# EAGLE library part 1X54 (library h1,27mm)
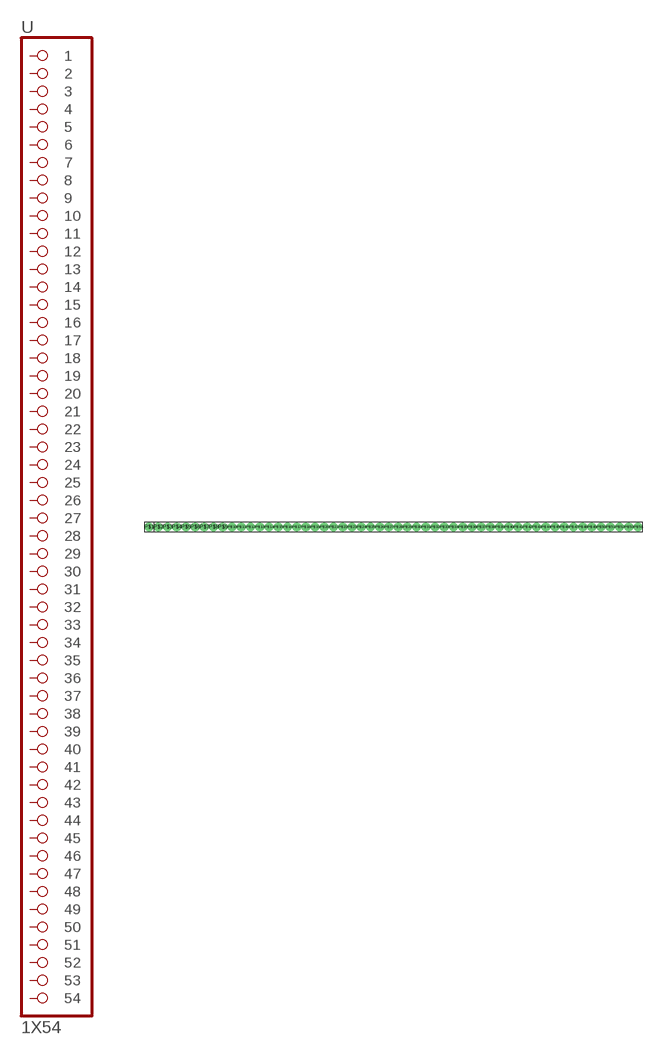
[diagram p0: symbol with the pads of 1X54; footprint 1X54]

Designator prefix -

## 1X54  [1X54]
P$1  1  pas
P$2  2  pas
P$3  3  pas
P$4  4  pas
P$5  5  pas
P$6  6  pas
P$7  7  pas
P$8  8  pas
P$9  9  pas
P$10  10  pas
P$11  11  pas
P$12  12  pas
P$13  13  pas
P$14  14  pas
P$15  15  pas
P$16  16  pas
P$17  17  pas
P$18  18  pas
P$19  19  pas
P$20  20  pas
P$21  21  pas
P$22  22  pas
P$23  23  pas
P$24  24  pas
P$25  25  pas
P$26  26  pas
P$27  27  pas
P$28  28  pas
P$29  29  pas
P$30  30  pas
P$31  31  pas
P$32  32  pas
P$33  33  pas
P$34  34  pas
P$35  35  pas
P$36  36  pas
P$37  37  pas
P$38  38  pas
P$39  39  pas
P$40  40  pas
P$41  41  pas
P$42  42  pas
P$43  43  pas
P$44  44  pas
P$45  45  pas
P$46  46  pas
P$47  47  pas
P$48  48  pas
P$49  49  pas
P$50  50  pas
P$51  51  pas
P$52  52  pas
P$53  53  pas
P$54  54  pas

## Footprint 1X54 (pad centres in mm)
PIN HEADER
drill 0.7 pad 1: P$1 -33.655,0; P$2 -32.385,0; P$3 -31.115,0; P$4 -29.845,0; P$5 -28.575,0; P$6 -27.305,0; P$7 -26.035,0; P$8 -24.765,0; P$9 -23.495,0; P$10 -22.225,0; P$11 -20.955,0; P$12 -19.685,0; P$13 -18.415,0; P$14 -17.145,0; P$15 -15.875,0; P$16 -14.605,0; P$17 -13.335,0; P$18 -12.065,0; P$19 -10.795,0; P$20 -9.525,0; P$21 -8.255,0; P$22 -6.985,0; P$23 -5.715,0; P$24 -4.445,0; P$25 -3.175,0; P$26 -1.905,0; P$27 -0.635,0; P$28 0.635,0; P$29 1.905,0; P$30 3.175,0; P$31 4.445,0; P$32 5.715,0; P$33 6.985,0; P$34 8.255,0; P$35 9.525,0; P$36 10.795,0; P$37 12.065,0; P$38 13.335,0; P$39 14.605,0; P$40 15.875,0; P$41 17.145,0; P$42 18.415,0; P$43 19.685,0; P$44 20.955,0; P$45 22.225,0; P$46 23.495,0; P$47 24.765,0; P$48 26.035,0; P$49 27.305,0; P$50 28.575,0; P$51 29.845,0; P$52 31.115,0; P$53 32.385,0; P$54 33.655,0